# EAGLE library part OPA_ISL28191 (library akita)
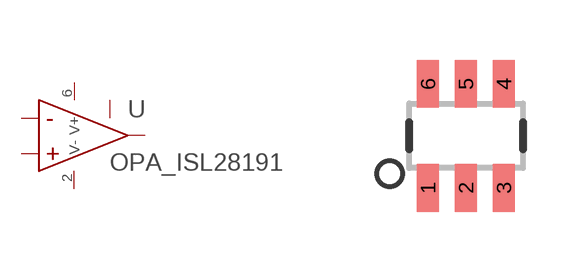
[diagram p22: symbol with the pads of SOT23-6; footprint SOT23-6]

Designator prefix U

## OPA_ISL28191  [SOT23-6]
1  VO
2  V-
3  INP
4  INM
5  ENB
6  V+

## Footprint SOT23-6 (pad centres in mm)
smd 0.55 x 1.2: 1 -0.95,-1.3; 2 0,-1.3; 3 0.95,-1.3; 4 0.95,1.3; 5 0,1.3; 6 -0.95,1.3